# Altium footprint library Headers_Connectors.PcbLib: 45 footprints (part 2 of 3)
Each footprint in its own frame and in the unit in brackets; x right, y up, seen from the top. Pads: shape width x height; smd on the part's side, far side on the other; paste and mask are expansions set on the pad; w line width, h text height; cw(c..) or ccw(c..) is an arc to the next point about the centre after c.
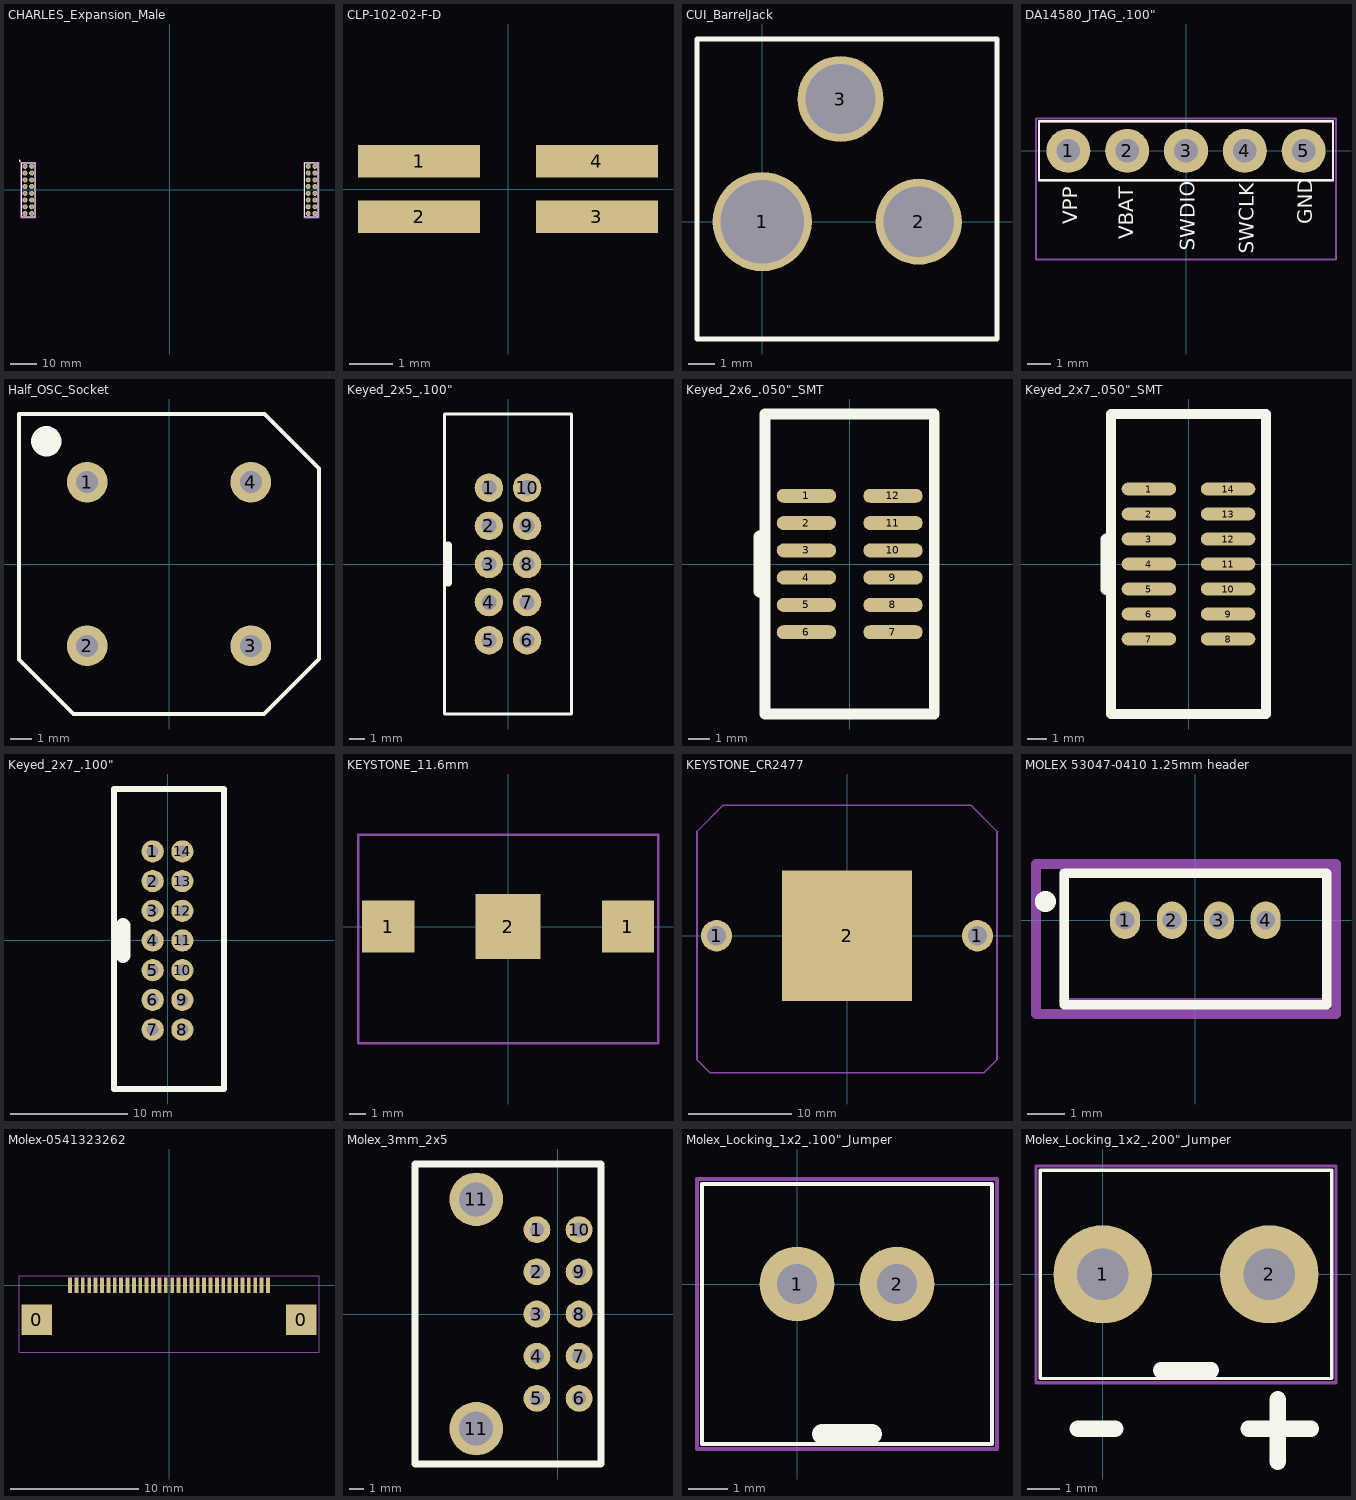
[diagram p1: the footprints below, top view; thin cyan lines are the x and y axes]

## CHARLES_Expansion_Male [mm]
pads (32):
  round 1.9 hole 1.02: 1(-54.61,8.89) 2(-52.07,8.89) 3(-54.61,6.35) 4(-52.07,6.35) 5(-54.61,3.81) 6(-52.07,3.81) 7(-54.61,1.27) 8(-52.07,1.27) 9(-54.61,-1.27) 10(-52.07,-1.27) 11(-54.61,-3.81) 12(-52.07,-3.81) 13(-54.61,-6.35) 14(-52.07,-6.35) 15(-54.61,-8.89) 16(-52.07,-8.89) 17(52.07,8.89) 18(54.61,8.89) 19(52.07,6.35) 20(54.61,6.35) 21(52.07,3.81) 22(54.61,3.81) 23(52.07,1.27) 24(54.61,1.27) 25(52.07,-1.27) 26(54.61,-1.27) 27(52.07,-3.81) 28(54.61,-3.81) 29(52.07,-6.35) 30(54.61,-6.35) 31(52.07,-8.89) 32(54.61,-8.89)
Top Overlay:
  circle w0.4: c-56.642,10.922 r0.2
  lines w0.254: -55.88,-10.16 -50.8,-10.16 -50.8,10.16 -55.88,10.16 -55.88,-10.16 ; 50.8,-10.16 55.88,-10.16 55.88,10.16 50.8,10.16 50.8,-10.16
Mechanical 13:
  lines w0.254: -55.88,-10.16 -50.8,-10.16 -50.8,10.16 -55.88,10.16 -55.88,-10.16 ; 50.8,-10.16 55.88,-10.16 55.88,10.16 50.8,10.16 50.8,-10.16
Mechanical 15:
  lines w0.254: -56.134,-10.414 -56.134,10.414 -50.546,10.414 -50.546,-10.414 -56.134,-10.414 ; 50.546,-10.414 50.546,10.414 56.134,10.414 56.134,-10.414 50.546,-10.414
3D body "Header_.100_8x2.stp": height 8.77, standoff -2.77, extent 50.8,-10.16 55.88,10.16
3D body "Header_.100_8x2.stp": height 8.77, standoff -2.77, extent -55.88,-10.16 -50.8,10.16

## CLP-102-02-F-D [mil] "SAMTEC_CLP"
pads (4):
  rect 110x29 smd: 1(-80,25) 2(-80,-25) 3(80,-25) 4(80,25)
3D body "CLP-102-02-F-D.stp": height 89, standoff -1, extent -85,-58.49 85,58.51

## CUI_BarrelJack [mm]
height 10.922
pads (3):
  round 3.8 hole 3.2: 1(0,0)
  round 3.3 hole 2.7: 2(6,0) 3(3,4.7)
Top Overlay:
  lines w0.2: -2.5,-4.5 9,-4.5 9,4.5 9,7 -2.5,7 -2.5,-4.5
3D body "pj-002bh.stp": height 11, standoff -3.5, extent -0.7,-4.5 13.7,4.9

## DA14580_JTAG_.100" [mm]
pads (5):
  round 1.9 hole 1.02: 1(-5.08,0) 2(-2.54,0) 3(0,0) 4(2.54,0) 5(5.08,0)
Top Overlay:
  lines w0.1: -6.35,-1.27 -6.35,1.27 6.35,1.27 6.35,-1.27 -6.35,-1.27
  text "SWCLK" at 2.921,-4.445 h0.64
  text "SWDIO" at 0.381,-4.318 h0.64
  text "VBAT" at -2.286,-3.81 h0.64
  text "GND" at 5.461,-3.175 h0.64
  text "VPP" at -4.699,-3.175 h0.64
Mechanical 13:
  lines w0.1: -6.35,-1.27 -6.35,1.27 6.35,1.27 6.35,-1.27 -6.35,-1.27
Mechanical 15:
  lines w0.1: -6.477,-4.699 6.477,-4.699 6.477,1.397 -6.477,1.397 -6.477,-4.699
3D body "Header_.100_5x1.stp": height 8.67, standoff -2.87, extent -6.35,-1.222 6.35,1.318

## Half_OSC_Socket [mm] "8-DIP, 4 Lead (Half Size"
pads (4):
  round 1.9 hole 1.02: 1(-3.81,3.81) 2(-3.81,-3.81) 3(3.81,-3.81) 4(3.81,3.81)
Top Overlay:
  circle w1: c-5.715,5.715 r0.205
  lines w0.2: -6.985,-4.445 -4.445,-6.985 4.424,-6.985 6.985,-4.424 6.985,4.445 4.445,6.985 -6.985,6.985 -6.985,-4.445
3D body: height 5, standoff 0, extent -6.35,-6.35 6.35,6.35

## Keyed_2x5_.100" [mm]
pads (10):
  round 1.9 hole 1.02: 1(-1.27,5.08) 2(-1.27,2.54) 3(-1.27,0) 4(-1.27,-2.54) 5(-1.27,-5.08) 6(1.27,-5.08) 7(1.27,-2.54) 8(1.27,0) 9(1.27,2.54) 10(1.27,5.08)
Top Overlay:
  lines w0.2: -4.25,-10 -4.25,10 4.25,10 4.25,-10 -4.25,-10
  lines w0.508: -4,-1.25 -4,1.25
3D body "66506-066LFc.stp": height 9.46, standoff -2.48, extent -4.064,-9.906 4.064,9.906

## Keyed_2x6_.050"_SMT [mm]
pads (12):
  oval 2.77x0.65 smd: 1(-2.015,3.175) 2(-2.015,1.905) 3(-2.015,0.635) 4(-2.015,-0.635) 5(-2.015,-1.905) 6(-2.015,-3.175) 7(2.015,-3.175) 8(2.015,-1.905) 9(2.015,-0.635) 10(2.015,0.635) 11(2.015,1.905) 12(2.015,3.175)
Top Overlay:
  lines w0.508: -3.937,-6.985 -3.937,6.985 3.937,6.985 3.937,-6.985 -3.937,-6.985
  lines w0.584: -4.191,-1.27 -4.191,1.27
3D body "SHF-106-01-L-D-SM-K-TR.stp": height 5.64, standoff 0.05, extent -3.248,-6.985 3.248,6.985

## Keyed_2x7_.050"_SMT [mm]
pads (14):
  oval 2.77x0.65 smd: 1(-2.015,3.81) 2(-2.015,2.54) 3(-2.015,1.27) 4(-2.015,0) 5(-2.015,-1.27) 6(-2.015,-2.54) 7(-2.015,-3.81) 8(2.015,-3.81) 9(2.015,-2.54) 10(2.015,-1.27) 11(2.015,0) 12(2.015,1.27) 13(2.015,2.54) 14(2.015,3.81)
Top Overlay:
  lines w0.508: -3.937,-7.62 -3.937,7.62 3.937,7.62 3.937,-7.62 -3.937,-7.62
  lines w0.584: -4.191,-1.27 -4.191,1.27
3D body "3220-14-0300_1638580372.214.step": height 5.6, standoff 0, extent -2.75,-7.595 2.75,7.595

## Keyed_2x7_.100" [mm]
pads (14):
  round 1.9 hole 1.02: 1(-1.27,7.62) 2(-1.27,5.08) 3(-1.27,2.54) 4(-1.27,0) 5(-1.27,-2.54) 6(-1.27,-5.08) 7(-1.27,-7.62) 8(1.27,-7.62) 9(1.27,-5.08) 10(1.27,-2.54) 11(1.27,0) 12(1.27,2.54) 13(1.27,5.08) 14(1.27,7.62)
Top Overlay:
  lines w0.508: -4.572,-12.7 -4.572,12.954 4.826,12.954 4.826,-12.7 -4.572,-12.7
  lines w1.27: -3.81,-1.27 -3.81,1.27
3D body "61201421621_Download_STP_61201421621_rev1.stp": height 9.12, standoff -2.98, extent -4.425,-12.72 4.75,12.72

## KEYSTONE_11.6mm [mil]
pads (3):
  rect 125x125 smd mask+2: 1(-287.5,0) 1(287.5,0)
  rect 156x156 smd paste+0 mask+2: 2(0,0)
Mechanical 15:
  lines w6: -360,-280 -360,220 360,220 360,-280 -360,-280
3D body: height 212.6, standoff 0, extent -228.35,-256.44 228.35,200
3D body "keystone-PN2996.STEP": height 235, standoff 0, extent -350,-265 350,210

## KEYSTONE_CR2477 [mil]
pads (3):
  round 120 hole 73: 1(-500,0) 1(500,0)
  rect 500x500 smd mask+2: 2(0,0)
Mechanical 15:
  lines w6: -575,-475 -575,400 -475,500 475,500 575,400 575,-475 525,-525 -525,-525 -575,-475
3D body "keystone-PN3039.STEP": height 346, standoff -103.79, extent -535.36,-505 535,385
3D body: height 303.15, standoff 0, extent -482.28,-482.15 482.29,482.15

## MOLEX 53047-0410 1.25mm header [mm]
pads (4):
  oval 0.8x1 hole 0.5: 1(-1.875,0) 2(-0.625,0) 3(0.625,0) 4(1.875,0)
Top Overlay:
  circle w0.305: c-4,0.5 r0.127
  lines w0.254: -3.5,-2.25 -3.5,1.25 3.5,1.25 3.5,-2.25 -3.5,-2.25
Mechanical 13:
  lines w0.254: -3.5,-2.2 -3.5,1.3 3.5,1.3 3.5,-2.2 -3.5,-2.2
Mechanical 15:
  lines w0.254: -4.25,-2.5 3.75,-2.5 3.75,1.5 -4.25,1.5 -4.25,-2.5
3D body "Molex 4pos.stp": height 4.3, standoff -2.2, extent -3.375,-2.05 3.375,1.15

## Molex-0541323262 [mm] "32SMT"
pads (34):
  rect 2.4x2.4 smd: 0(-10.35,-2.7) 0(10.35,-2.7)
  rect 0.3x1.2 smd mask+0.04: 1(-7.75,0) 2(-7.25,0) 3(-6.75,0) 4(-6.25,0) 5(-5.75,0) 6(-5.25,0) 7(-4.75,0) 8(-4.25,0) 9(-3.75,0) 10(-3.25,0) 11(-2.75,0) 12(-2.25,0) 13(-1.75,0) 14(-1.25,0) 15(-0.75,0) 16(-0.25,0) 17(0.25,0) 18(0.75,0) 19(1.25,0) 20(1.75,0) 21(2.25,0) 22(2.75,0) 23(3.25,0) 24(3.75,0) 25(4.25,0) 26(4.75,0) 27(5.25,0) 28(5.75,0) 29(6.25,0) 30(6.75,0) 31(7.25,0) 32(7.75,0)
Mechanical 15:
  lines w0.051: -11.75,-5.25 -10.75,-5.25 11.75,-5.25 11.75,0.75 -11.75,0.75 -11.75,-5.25
3D body "Molex32.stp": height 1.95, standoff -0.05, extent -10.75,-5.25 10.75,0.35

## Molex_3mm_2x5 [mm]
pads (12):
  round 1.905 hole 1.016 unplated: 1(-1.5,6) 2(-1.5,3) 3(-1.5,0) 4(-1.5,-3) 5(-1.5,-6) 6(1.5,-6) 7(1.5,-3) 8(1.5,0) 9(1.5,3) 10(1.5,6)
  round 3.81 hole 2.413 unplated: 11(-5.817,-8.153) 11(-5.817,8.153)
Top Overlay:
  lines w0.508: -10.16,-10.668 3.048,-10.668 3.048,10.668 -10.16,10.668 -10.16,-10.668
3D body "430451023.stp": height 8.89, standoff -3.06, extent -10.416,-9.575 1.824,9.625

## Molex_Locking_1x2_.100"_Jumper [mm]
pads (2):
  round 1.9 hole 1.02: 1(0,0) 2(2.54,0)
Top Overlay:
  lines w0.1: -2.413,-4.064 4.953,-4.064 4.953,2.54 -2.413,2.54 -2.413,-4.064
  lines w0.5: 0.635,-3.81 1.905,-3.81
Mechanical 15:
  lines w0.1: -2.54,-4.191 -2.54,2.667 5.08,2.667 5.08,-4.191 -2.54,-4.191
3D body "Molex_Locking_.100_2x1.stp": height 11.81, standoff -3.3, extent -2.413,-4.064 4.953,2.54

## Molex_Locking_1x2_.200"_Jumper [mm] "Power"
pads (2):
  round 3 hole 1.57: 1(0,0) 2(5.08,0)
Top Overlay:
  lines w0.1: -1.905,-3.175 6.985,-3.175 6.985,3.175 -1.905,3.175 -1.905,-3.175
  lines w0.5: -0.762,-4.699 0.381,-4.699 ; 1.778,-2.921 3.302,-2.921 ; 4.445,-4.699 6.35,-4.699 ; 5.334,-5.715 5.334,-3.81
Mechanical 15:
  lines w0.1: -2.032,-3.302 -2.032,3.302 7.112,3.302 7.112,-3.302 -2.032,-3.302
3D body "Molex_Locking_.200_2x1.stp": height 14.69, standoff -4.34, extent -1.5,-3.175 6.58,3.175